# EAGLE library part SN74LVC2G00 (library DAC)
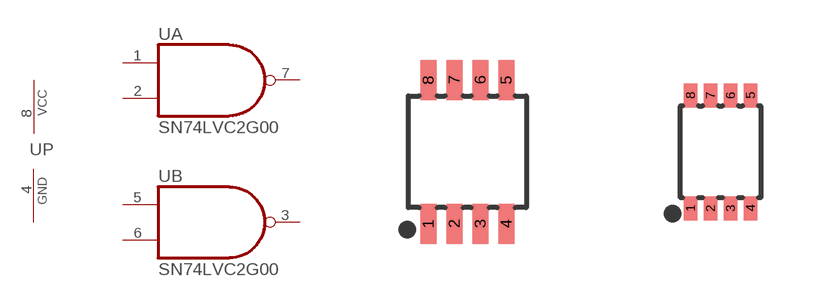
[diagram p22: symbol with the pads of TI-DCT; footprints TI-DCT, TI-DCU]

Designator prefix U; gates A=NAND B=NAND P=PWR

## SN74LVC2G00DCTR  [TI-DCT]
1  A:I0  in
2  A:I1  in
3  B:O  out
4  P:GND  pwr
5  B:I0  in
6  B:I1  in
7  A:O  out
8  P:VCC  pwr

## SN74LVC2G00DCUR  [TI-DCU]
Pads as for TI-DCT

## Footprint TI-DCT (pad centres in mm)
smd 0.4 x 1: 1 -0.975,-1.8; 2 -0.325,-1.8; 3 0.325,-1.8; 4 0.975,-1.8; 5 0.975,1.8; 6 0.325,1.8; 7 -0.325,1.8; 8 -0.975,1.8

## Footprint TI-DCU (pad centres in mm)
smd 0.33 x 0.6: 1 -0.75,-1.413; 2 -0.25,-1.413; 3 0.25,-1.413; 4 0.75,-1.413; 5 0.75,1.413; 6 0.25,1.413; 7 -0.25,1.413; 8 -0.75,1.413